# Altium integrated library NSC Interface.IntLib: 504 symbols (part 9 of 16)
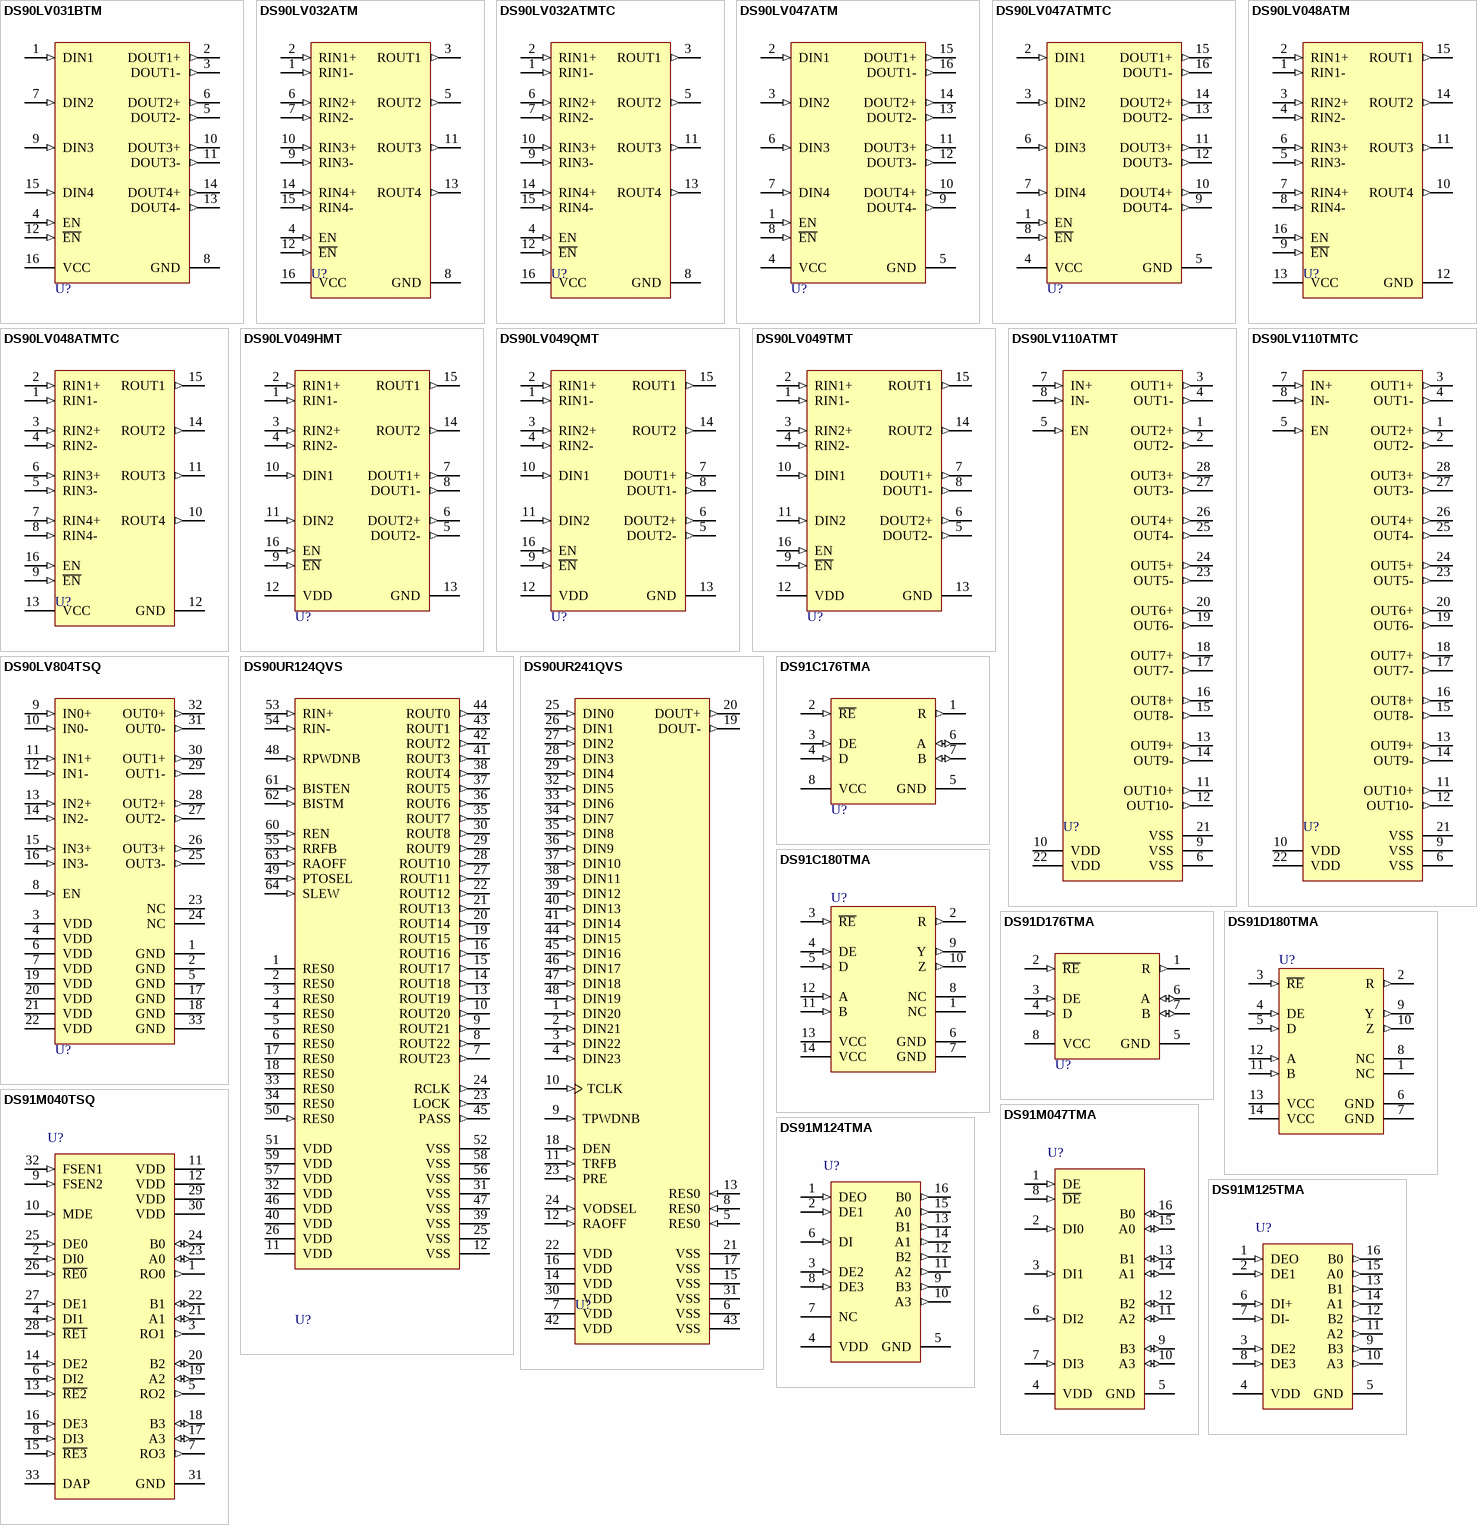
[diagram p49: symbols DS90LV031BTM to DS91M125TMA]

## DS90LV049TMT
designator U?
3V LVDS Dual Line Driver with Dual Line Receiver; PartNumber: DS90LV049TMT; Manufacturer: National Semiconductor; CompType: Interface IC; PackageTopMarking: NSZXYTT*90LV049*TMT; PowerWise: N; Published: 4-Dec-2008; DatasheetVersion: Mar-2003; PackageVersion: revD, Jun-2003; PackageReference: MTC16; Publisher: Altium Limited; PackageDescription: Molded TSSOP, Jedec, 5 x 4.4 x 0.9mm Body, 16 Lead, 0.65mm Pitch; RoHS: O; PinCount: 16; DigiKeyPartNumber: DS90LV049TMT-ND; Code_JEDEC: MO-153-AB; ComponentLink1Description: DS90LV049 Datasheet; ComponentLink1URL: http://www.national.com/ds/DS/DS90LV049.pdf; ComponentLink2Description: DS90LV049 Web Page; ComponentLink2URL: http://www.national.com/pf/DS/DS90LV049.html; ComponentLink3Description: MTC16 Package Page; ComponentLink3URL: http://www.national.com/packaging/folders/mtc16.html
footprint MTC16_N (TSOP, 16-Leads, Body 5x4.4mm, Pitch 0.65mm, IPC Medium Density)
footprint MTC16_L (TSOP, 16-Leads, Body 5x4.4mm, Pitch 0.65mm, IPC High Density)
footprint MTC16_M (TSOP, 16-Leads, Body 5x4.4mm, Pitch 0.65mm, IPC Low Density)
pins: 1 RIN1- (in), 2 RIN1+ (in), 3 RIN2+ (in), 4 RIN2- (in), 5 DOUT2- (out), 6 DOUT2+ (out), 7 DOUT1+ (out), 8 DOUT1- (out), 9 ~{EN} (in), 10 DIN1 (in), 11 DIN2 (in), 12 VDD (power), 13 GND (power), 14 ROUT2 (out), 15 ROUT1 (out), 16 EN (in)

## DS90LV110ATMT
designator U?
1 to 10 LVDS Data/Clock Distributor with Failsafe; PartNumber: DS90LV110ATMT; Manufacturer: National Semiconductor; CompType: Interface IC; PackageTopMarking: NSUZXYTT*DS90LV*110ATMT; PowerWise: N; Published: 4-Dec-2008; DatasheetVersion: Oct-2007; PackageVersion: revD, Jan-2005; PackageReference: MTC28; Publisher: Altium Limited; PackageDescription: Molded TSSOP, Jedec, 9.7 x 4.4 x 0.9mm Body, 28 Lead, 0.65mm Pitch; RoHS: O; PinCount: 28; DigiKeyPartNumber: DS90LV110ATMT-ND; Code_JEDEC: MO-153-AE; ComponentLink1Description: DS90LV110AT Datasheet; ComponentLink1URL: http://www.national.com/ds/DS/DS90LV110AT.pdf; ComponentLink2Description: DS90LV110AT Web Page; ComponentLink2URL: http://www.national.com/pf/DS/DS90LV110AT.html; ComponentLink3Description: MTC28 Package Page; ComponentLink3URL: http://www.national.com/packaging/folders/mtc28.html
footprint MTC28_N (TSOP, 28-Leads, Body 9.7x4.4mm, Pitch 0.65mm, IPC Medium Density)
footprint MTC28_L (TSOP, 28-Leads, Body 9.7x4.4mm, Pitch 0.65mm, IPC High Density)
footprint MTC28_M (TSOP, 28-Leads, Body 9.7x4.4mm, Pitch 0.65mm, IPC Low Density)
pins: 1 OUT2+ (out), 2 OUT2- (out), 3 OUT1+ (out), 4 OUT1- (out), 5 EN (in), 6 VSS (power), 7 IN+ (in), 8 IN- (in), 9 VSS (power), 10 VDD (power), 11 OUT10+ (out), 12 OUT10- (out), 13 OUT9+ (out), 14 OUT9- (out), 15 OUT8- (out), 16 OUT8+ (out), 17 OUT7- (out), 18 OUT7+ (out), 19 OUT6- (out), 20 OUT6+ (out), 21 VSS (power), 22 VDD (power), 23 OUT5- (out), 24 OUT5+ (out), 25 OUT4- (out), 26 OUT4+ (out), 27 OUT3- (out), 28 OUT3+ (out)

## DS90LV110TMTC
designator U?
1 to 10 LVDS Data/Clock Distributor; PartNumber: DS90LV110TMTC; Manufacturer: National Semiconductor; CompType: Interface IC; PackageTopMarking: NSUZXYTT*DS90LV*110TMTC; PowerWise: N; Published: 4-Dec-2008; DatasheetVersion: May-2007; PackageVersion: revD, Jan-2005; PackageReference: MTC28; Publisher: Altium Limited; PackageDescription: Molded TSSOP, Jedec, 9.7 x 4.4 x 0.9mm Body, 28 Lead, 0.65mm Pitch; RoHS: O; PinCount: 28; DigiKeyPartNumber: DS90LV110TMTC-ND; Code_JEDEC: MO-153-AE; ComponentLink1Description: DS90LV110T Datasheet; ComponentLink1URL: http://www.national.com/ds/DS/DS90LV110T.pdf; ComponentLink2Description: DS90LV110T Web Page; ComponentLink2URL: http://www.national.com/pf/DS/DS90LV110T.html; ComponentLink3Description: MTC28 Package Page; ComponentLink3URL: http://www.national.com/packaging/folders/mtc28.html
footprint MTC28_N (TSOP, 28-Leads, Body 9.7x4.4mm, Pitch 0.65mm, IPC Medium Density)
footprint MTC28_L (TSOP, 28-Leads, Body 9.7x4.4mm, Pitch 0.65mm, IPC High Density)
footprint MTC28_M (TSOP, 28-Leads, Body 9.7x4.4mm, Pitch 0.65mm, IPC Low Density)
pins: 1 OUT2+ (out), 2 OUT2- (out), 3 OUT1+ (out), 4 OUT1- (out), 5 EN (in), 6 VSS (power), 7 IN+ (in), 8 IN- (in), 9 VSS (power), 10 VDD (power), 11 OUT10+ (out), 12 OUT10- (out), 13 OUT9+ (out), 14 OUT9- (out), 15 OUT8- (out), 16 OUT8+ (out), 17 OUT7- (out), 18 OUT7+ (out), 19 OUT6- (out), 20 OUT6+ (out), 21 VSS (power), 22 VDD (power), 23 OUT5- (out), 24 OUT5+ (out), 25 OUT4- (out), 26 OUT4+ (out), 27 OUT3- (out), 28 OUT3+ (out)

## DS90LV804TSQ
designator U?
Four-Channel 800 Mbps LVDS Repeater; PartNumber: DS90LV804TSQ; Manufacturer: National Semiconductor; CompType: Interface IC; PackageTopMarking: NS*UZXYTT*804TSQ; PowerWise: N; Published: 4-Dec-2008; DatasheetVersion: May-2007; PackageVersion: revA, Jul-2004; PackageReference: SQA32A; Publisher: Altium Limited; PackageDescription: LLP, Quad, 5 x 5 x 0.8mm, 32 Lead, 0.5mm Pitch, No Pullback, 3.1 x 3.1mm Exposed Pad; RoHS: Y; PinCount: 32; DigiKeyPartNumber: DS90LV804TSQTR-ND; ComponentLink1Description: DS90LV804 Datasheet; ComponentLink1URL: http://www.national.com/ds/DS/DS90LV804.pdf; ComponentLink2Description: DS90LV804 Web Page; ComponentLink2URL: http://www.national.com/pf/DS/DS90LV804.html; ComponentLink3Description: SQA32A Package Page; ComponentLink3URL: http://www.national.com/packaging/folders/sqa32a.html
footprint SQA32A (QFN, 32-Leads, Body 5x5mm, Pitch 0.5mm, NSC Recommended)
pins: 1 GND (power), 2 GND (power), 3 VDD (power), 4 VDD (power), 5 GND (power), 6 VDD (power), 7 VDD (power), 8 EN (in), 9 IN0+ (in), 10 IN0- (in), 11 IN1+ (in), 12 IN1- (in), 13 IN2+ (in), 14 IN2- (in), 15 IN3+ (in), 16 IN3- (in), 17 GND (power), 18 GND (power), 19 VDD (power), 20 VDD (power), 21 VDD (power), 22 VDD (power), 23 NC, 24 NC, 25 OUT3- (out), 26 OUT3+ (out), 27 OUT2- (out), 28 OUT2+ (out), 29 OUT1- (out), 30 OUT1+ (out), 31 OUT0- (out), 32 OUT0+ (out), 33 GND (power)

## DS90UR124QVS
designator U?
5-43MHz DC- Balanced 24-Bit LVDS Deserializer; PartNumber: DS90UR124QVS; Manufacturer: National Semiconductor; CompType: Interface IC; PackageTopMarking: NSUZXYYTT*DS90UR124*QVS; PowerWise: N; Published: 4-Dec-2008; DatasheetVersion: Jan-2008; PackageVersion: revB, Jul-2003; PackageReference: VEC64A; Publisher: Altium Limited; PackageDescription: TQFP, Jedec Metric, 10 x 10 x 1.0mm, 64 Lead, 0.5mm Pitch; RoHS: Y; PinCount: 64; Code_JEDEC: MS-026-ACD; ComponentLink1Description: DS90UR124 Datasheet; ComponentLink1URL: http://www.national.com/ds/DS/DS90UR124.pdf; ComponentLink2Description: DS90UR124 Web Page; ComponentLink2URL: http://www.national.com/pf/DS/DS90UR124.html; ComponentLink3Description: VEC64A Package Page; ComponentLink3URL: http://www.national.com/packaging/folders/vec64a.html
footprint VEC64A_N (Thin QFP, 64-Leads, Body 10x10mm, Pitch 0.5mm, IPC Medium Density)
footprint VEC64A_L (Thin QFP, 64-Leads, Body 10x10mm, Pitch 0.5mm, IPC High Density)
footprint VEC64A_M (Thin QFP, 64-Leads, Body 10x10mm, Pitch 0.5mm, IPC Low Density)
pins: 1 RES0, 2 RES0, 3 RES0, 4 RES0, 5 RES0, 6 RES0, 7 ROUT23 (out), 8 ROUT22 (out), 9 ROUT21 (out), 10 ROUT20 (out), 11 VDD (power), 12 VSS (power), 13 ROUT19 (out), 14 ROUT18 (out), 15 ROUT17 (out), 16 ROUT16 (out), 17 RES0, 18 RES0, 19 ROUT15 (out), 20 ROUT14 (out), 21 ROUT13 (out), 22 ROUT12 (out), 23 LOCK (out), 24 RCLK (out), 25 VSS (power), 26 VDD (power), 27 ROUT11 (out), 28 ROUT10 (out), 29 ROUT9 (out), 30 ROUT8 (out), 31 VSS (power), 32 VDD (power), 33 RES0, 34 RES0, 35 ROUT7 (out), 36 ROUT6 (out), 37 ROUT5 (out), 38 ROUT4 (out), 39 VSS (power), 40 VDD (power), 41 ROUT3 (out), 42 ROUT2 (out), 43 ROUT1 (out), 44 ROUT0 (out), 45 PASS (out), 46 VDD (power), 47 VSS (power), 48 RPWDNB (in), 49 PTOSEL (in), 50 RES0 (in), 51 VDD (power), 52 VSS (power), 53 RIN+ (in), 54 RIN- (in), 55 RRFB (in), 56 VSS (power), 57 VDD (power), 58 VSS (power), 59 VDD (power), 60 REN (in), 61 BISTEN (in), 62 BISTM (in), 63 RAOFF (in), 64 SLEW (in)

## DS90UR241QVS
designator U?
5-43MHz DC- Balanced 24-Bit LVDS Serializer; PartNumber: DS90UR241QVS; Manufacturer: National Semiconductor; CompType: Interface IC; PackageTopMarking: NSUZXYTT*DS90UR24*1QVS; PowerWise: N; Published: 4-Dec-2008; DatasheetVersion: Jan-2008; PackageVersion: revA, Apr-2000; PackageReference: VBC48A; Publisher: Altium Limited; PackageDescription: TQFP, Jedec Metric, 7 x 7 x 1mm, 48 Lead, 0.5mm Pitch; RoHS: Y; PinCount: 48; Code_JEDEC: MS-026-ABC; ComponentLink1Description: DS90UR241 Datasheet; ComponentLink1URL: http://www.national.com/ds/DS/DS90UR241.pdf; ComponentLink2Description: DS90UR241 Web Page; ComponentLink2URL: http://www.national.com/pf/DS/DS90UR241.html; ComponentLink3Description: VBC48A Package Page; ComponentLink3URL: http://www.national.com/packaging/folders/vbc48a.html
footprint VBC48A_N (Thin QFP, 48-Leads, Body 7x7mm, Pitch 0.5mm, IPC Medium Density)
footprint VBC48A_L (Thin QFP, 48-Leads, Body 7x7mm, Pitch 0.5mm, IPC High Density)
footprint VBC48A_M (Thin QFP, 48-Leads, Body 7x7mm, Pitch 0.5mm, IPC Low Density)
pins: 1 DIN20 (in), 2 DIN21 (in), 3 DIN22 (in), 4 DIN23 (in), 5 RES0 (in), 6 VSS (power), 7 VDD (power), 8 RES0 (in), 9 TPWDNB (in), 10 TCLK (in), 11 TRFB (in), 12 RAOFF (in), 13 RES0 (in), 14 VDD (power), 15 VSS (power), 16 VDD (power), 17 VSS (power), 18 DEN (in), 19 DOUT- (out), 20 DOUT+ (out), 21 VSS (power), 22 VDD (power), 23 PRE (in), 24 VODSEL (in), 25 DIN0 (in), 26 DIN1 (in), 27 DIN2 (in), 28 DIN3 (in), 29 DIN4 (in), 30 VDD (power), 31 VSS (power), 32 DIN5 (in), 33 DIN6 (in), 34 DIN7 (in), 35 DIN8 (in), 36 DIN9 (in), 37 DIN10 (in), 38 DIN11 (in), 39 DIN12 (in), 40 DIN13 (in), 41 DIN14 (in), 42 VDD (power), 43 VSS (power), 44 DIN15 (in), 45 DIN16 (in), 46 DIN17 (in), 47 DIN18 (in), 48 DIN19 (in)

## DS91C176TMA
designator U?
100 MHz Single Channel M-LVDS Transceivers; PartNumber: DS91C176TMA; Manufacturer: National Semiconductor; CompType: Interface IC; PackageTopMarking: NSZXTT*DS91C*176MA; PowerWise: N; Published: 4-Dec-2008; DatasheetVersion: Feb-2008; PackageVersion: revL, Sep-2006; PackageReference: M08A; Publisher: Altium Limited; PackageDescription: SOIC Narrow, 4.9 x 3.9 x 1.45mm, 8 Lead, 1.27mm Pitch; RoHS: O; PinCount: 8; DigiKeyPartNumber: DS91C176TMA-ND; Code_JEDEC: MS-012-AA; Code_IPC: SOIC127P600-8; ComponentLink1Description: DS91C176 Datasheet; ComponentLink1URL: http://www.national.com/ds/DS/DS91C176.pdf; ComponentLink2Description: DS91C176 Web Page; ComponentLink2URL: http://www.national.com/pf/DS/DS91C176.html; ComponentLink3Description: M08A Package Page; ComponentLink3URL: http://www.national.com/packaging/folders/m08a.html
footprint M08A_N (SOIC, 8-Leads, Body 4.9x3.9mm, Pitch 1.27mm, IPC Medium Density)
footprint M08A_L (SOIC, 8-Leads, Body 4.9x3.9mm, Pitch 1.27mm, IPC High Density)
footprint M08A_M (SOIC, 8-Leads, Body 4.9x3.9mm, Pitch 1.27mm, IPC Low Density)
pins: 1 R (out), 2 ~{RE} (in), 3 DE (in), 4 D (in), 5 GND (power), 6 A (io), 7 B (io), 8 VCC (power)

## DS91C180TMA
designator U?
100 MHz M-LVDS Line Driver/Receiver Pair; PartNumber: DS91C180TMA; Manufacturer: National Semiconductor; CompType: Interface IC; PackageTopMarking: NSUZXYTT*DS91C180*TMA; PowerWise: N; Published: 4-Dec-2008; DatasheetVersion: Nov-2007; PackageVersion: revJ, Jan-1996; PackageReference: M14A; Publisher: Altium Limited; PackageDescription: Molded Package, S.O., .150in Wide, 14 Lead; RoHS: Y; PinCount: 14; DigiKeyPartNumber: DS91C180TMA-ND; Code_JEDEC: MS-012AB; Code_IPC: SOIC127P600-14; ComponentLink1Description: DS91C180 Datasheet; ComponentLink1URL: http://www.national.com/ds/DS/DS91C180.pdf; ComponentLink2Description: DS91C180 Web Page; ComponentLink2URL: http://www.national.com/pf/DS/DS91C180.html; ComponentLink3Description: M14A Package Page; ComponentLink3URL: http://www.national.com/packaging/folders/m14a.html
footprint M14A_N (SOIC, 14-Leads, Body 8.6x3.9mm, Pitch 1.27mm, IPC Medium Density)
footprint M14A_L (SOIC, 14-Leads, Body 8.6x3.9mm, Pitch 1.27mm, IPC High Density)
footprint M14A_M (SOIC, 14-Leads, Body 8.6x3.9mm, Pitch 1.27mm, IPC Low Density)
pins: 1 NC, 2 R (out), 3 ~{RE} (in), 4 DE (in), 5 D (in), 6 GND (power), 7 GND (power), 8 NC, 9 Y (out), 10 Z (out), 11 B (in), 12 A (in), 13 VCC (power), 14 VCC (power)

## DS91D176TMA
designator U?
100 MHz Single Channel M-LVDS Transceivers; PartNumber: DS91D176TMA; Manufacturer: National Semiconductor; CompType: Interface IC; PackageTopMarking: NSZXTT*DS91D*176MA; PowerWise: N; Published: 4-Dec-2008; DatasheetVersion: Feb-2008; PackageVersion: revL, Sep-2006; PackageReference: M08A; Publisher: Altium Limited; PackageDescription: SOIC Narrow, 4.9 x 3.9 x 1.45mm, 8 Lead, 1.27mm Pitch; RoHS: Y; PinCount: 8; DigiKeyPartNumber: DS91D176TMA-ND; Code_JEDEC: MS-012-AA; Code_IPC: SOIC127P600-8; ComponentLink1Description: DS91D176 Datasheet; ComponentLink1URL: http://www.national.com/ds/DS/DS91D176.pdf; ComponentLink2Description: DS91D176 Web Page; ComponentLink2URL: http://www.national.com/pf/DS/DS91D176.html; ComponentLink3Description: M08A Package Page; ComponentLink3URL: http://www.national.com/packaging/folders/m08a.html
footprint M08A_N (SOIC, 8-Leads, Body 4.9x3.9mm, Pitch 1.27mm, IPC Medium Density)
footprint M08A_L (SOIC, 8-Leads, Body 4.9x3.9mm, Pitch 1.27mm, IPC High Density)
footprint M08A_M (SOIC, 8-Leads, Body 4.9x3.9mm, Pitch 1.27mm, IPC Low Density)
pins: 1 R (out), 2 ~{RE} (in), 3 DE (in), 4 D (in), 5 GND (power), 6 A (io), 7 B (io), 8 VCC (power)

## DS91D180TMA
designator U?
100 MHz M-LVDS Line Driver/Receiver Pair; PartNumber: DS91D180TMA; Manufacturer: National Semiconductor; CompType: Interface IC; PackageTopMarking: NSUZXYTT*DS91D180*TMA; PowerWise: N; Published: 4-Dec-2008; DatasheetVersion: Nov-2007; PackageVersion: revJ, Jan-1996; PackageReference: M14A; Publisher: Altium Limited; PackageDescription: Molded Package, S.O., .150in Wide, 14 Lead; RoHS: Y; PinCount: 14; DigiKeyPartNumber: DS91D180TMA-ND; Code_JEDEC: MS-012AB; Code_IPC: SOIC127P600-14; ComponentLink1Description: DS91D180 Datasheet; ComponentLink1URL: http://www.national.com/ds/DS/DS91D180.pdf; ComponentLink2Description: DS91D180 Web Page; ComponentLink2URL: http://www.national.com/pf/DS/DS91D180.html; ComponentLink3Description: M14A Package Page; ComponentLink3URL: http://www.national.com/packaging/folders/m14a.html
footprint M14A_N (SOIC, 14-Leads, Body 8.6x3.9mm, Pitch 1.27mm, IPC Medium Density)
footprint M14A_L (SOIC, 14-Leads, Body 8.6x3.9mm, Pitch 1.27mm, IPC High Density)
footprint M14A_M (SOIC, 14-Leads, Body 8.6x3.9mm, Pitch 1.27mm, IPC Low Density)
pins: 1 NC, 2 R (out), 3 ~{RE} (in), 4 DE (in), 5 D (in), 6 GND (power), 7 GND (power), 8 NC, 9 Y (out), 10 Z (out), 11 B (in), 12 A (in), 13 VCC (power), 14 VCC (power)

## DS91M040TSQ
designator U?
125 MHz Quad M-LVDS Transceiver; PartNumber: DS91M040TSQ; Manufacturer: National Semiconductor; CompType: Interface IC; PackageTopMarking: NS*UZXYTT*M040TS; PowerWise: N; Published: 4-Dec-2008; DatasheetVersion: Oct-2008; PackageVersion: revA, Jul-2004; PackageReference: SQA32A; Publisher: Altium Limited; RoHS: Y; PinCount: 32; DigiKeyPartNumber: DS91M040TSQCT-ND; ComponentLink1Description: DS91M040 Datasheet; ComponentLink1URL: http://www.national.com/ds/DS/DS91M040.pdf; ComponentLink2Description: DS91M040 Web Page; ComponentLink2URL: http://www.national.com/pf/DS/DS91M040.html; ComponentLink3Description: SQA32A Package Page; ComponentLink3URL: http://www.national.com/packaging/folders/sqa32a.html
footprint SQA32A (QFN, 32-Leads, Body 5x5mm, Pitch 0.5mm, NSC Recommended)
pins: 1 RO0 (out), 2 DI0 (in), 3 RO1 (out), 4 DI1 (in), 5 RO2 (out), 6 DI2 (in), 7 RO3 (out), 8 DI3 (in), 9 FSEN2 (in), 10 MDE (in), 11 VDD (power), 12 VDD (power), 13 ~{RE2} (in), 14 DE2 (in), 15 ~{RE3} (in), 16 DE3 (in), 17 A3 (io), 18 B3 (io), 19 A2 (io), 20 B2 (io), 21 A1 (io), 22 B1 (io), 23 A0 (io), 24 B0 (io), 25 DE0 (in), 26 ~{RE0} (in), 27 DE1 (in), 28 ~{RE1} (in), 29 VDD (power), 30 VDD (power), 31 GND (power), 32 FSEN1 (in), 33 DAP (power)

## DS91M047TMA
designator U?
125 MHz Quad M-LVDS Line Driver; PartNumber: DS91M047TMA; Manufacturer: National Semiconductor; CompType: Interface IC; PackageTopMarking: NSUZXYTT*DS91M047*TMA; PowerWise: N; Published: 4-Dec-2008; DatasheetVersion: Oct-2008; PackageVersion: revJ, Aug-1995; PackageReference: M16A; Publisher: Altium Limited; RoHS: Y; PinCount: 16; Code_JEDEC: MS-012-AC; Code_IPC: SOIC127P600-16; ComponentLink1Description: DS91M047 Datasheet; ComponentLink1URL: http://www.national.com/ds/DS/DS91M047.pdf; ComponentLink2Description: DS91M047 Web Page; ComponentLink2URL: http://www.national.com/pf/DS/DS91M047.html; ComponentLink3Description: M16A Package Page; ComponentLink3URL: http://www.national.com/packaging/folders/m16a.html
footprint M16A_N (SOIC, 16-Leads, Body 9.9x3.9mm, Pitch 1.27mm, IPC Medium Density)
footprint M16A_L (SOIC, 16-Leads, Body 9.9x3.9mm, Pitch 1.27mm, IPC High Density)
footprint M16A_M (SOIC, 16-Leads, Body 9.9x3.9mm, Pitch 1.27mm, IPC Low Density)
pins: 1 DE (in), 2 DI0 (in), 3 DI1 (in), 4 VDD (power), 5 GND (power), 6 DI2 (in), 7 DI3 (in), 8 ~{DE} (in), 9 B3 (io), 10 A3 (io), 11 A2 (io), 12 B2 (io), 13 B1 (io), 14 A1 (io), 15 A0 (io), 16 B0 (io)

## DS91M124TMA
designator U?
125 MHz 1:4 M-LVDS Repeater with LVCMOS Input; PartNumber: DS91M124TMA; Manufacturer: National Semiconductor; CompType: Interface IC; PackageTopMarking: NSUZXYTT*DS91M124*TMA; PowerWise: N; Published: 4-Dec-2008; DatasheetVersion: Oct-2008; PackageVersion: revJ, Aug-1995; PackageReference: M16A; Publisher: Altium Limited; RoHS: Y; PinCount: 16; Code_JEDEC: MS-012-AC; Code_IPC: SOIC127P600-16; ComponentLink1Description: DS91M124 Datasheet; ComponentLink1URL: http://www.national.com/ds/DS/DS91M124.pdf; ComponentLink2Description: DS91M124 Web Page; ComponentLink2URL: http://www.national.com/pf/DS/DS91M124.html; ComponentLink3Description: M16A Package Page; ComponentLink3URL: http://www.national.com/packaging/folders/m16a.html
footprint M16A_N (SOIC, 16-Leads, Body 9.9x3.9mm, Pitch 1.27mm, IPC Medium Density)
footprint M16A_L (SOIC, 16-Leads, Body 9.9x3.9mm, Pitch 1.27mm, IPC High Density)
footprint M16A_M (SOIC, 16-Leads, Body 9.9x3.9mm, Pitch 1.27mm, IPC Low Density)
pins: 1 DEO (in), 2 DE1 (in), 3 DE2 (in), 4 VDD (power), 5 GND (power), 6 DI (in), 7 NC, 8 DE3 (in), 9 B3 (out), 10 A3 (out), 11 A2 (out), 12 B2 (out), 13 B1 (out), 14 A1 (out), 15 A0 (out), 16 B0 (out)

## DS91M125TMA
designator U?
125 MHz 1:4 M-LVDS Repeater with LVDS Input; PartNumber: DS91M125TMA; Manufacturer: National Semiconductor; CompType: Interface IC; PackageTopMarking: NSUZXYTT*DS91M125*TMA; PowerWise: N; Published: 4-Dec-2008; DatasheetVersion: Oct-2008; PackageVersion: revJ, Aug-1995; PackageReference: M16A; Publisher: Altium Limited; RoHS: Y; PinCount: 16; Code_JEDEC: MS-012-AC; Code_IPC: SOIC127P600-16; ComponentLink1Description: DS91M125 Datasheet; ComponentLink1URL: http://www.national.com/ds/DS/DS91M125.pdf; ComponentLink2Description: DS91M125 Web Page; ComponentLink2URL: http://www.national.com/pf/DS/DS91M125.html; ComponentLink3Description: M16A Package Page; ComponentLink3URL: http://www.national.com/packaging/folders/m16a.html
footprint M16A_N (SOIC, 16-Leads, Body 9.9x3.9mm, Pitch 1.27mm, IPC Medium Density)
footprint M16A_L (SOIC, 16-Leads, Body 9.9x3.9mm, Pitch 1.27mm, IPC High Density)
footprint M16A_M (SOIC, 16-Leads, Body 9.9x3.9mm, Pitch 1.27mm, IPC Low Density)
pins: 1 DEO (in), 2 DE1 (in), 3 DE2 (in), 4 VDD (power), 5 GND (power), 6 DI+ (in), 7 DI- (in), 8 DE3 (in), 9 B3 (out), 10 A3 (out), 11 A2 (out), 12 B2 (out), 13 B1 (out), 14 A1 (out), 15 A0 (out), 16 B0 (out)

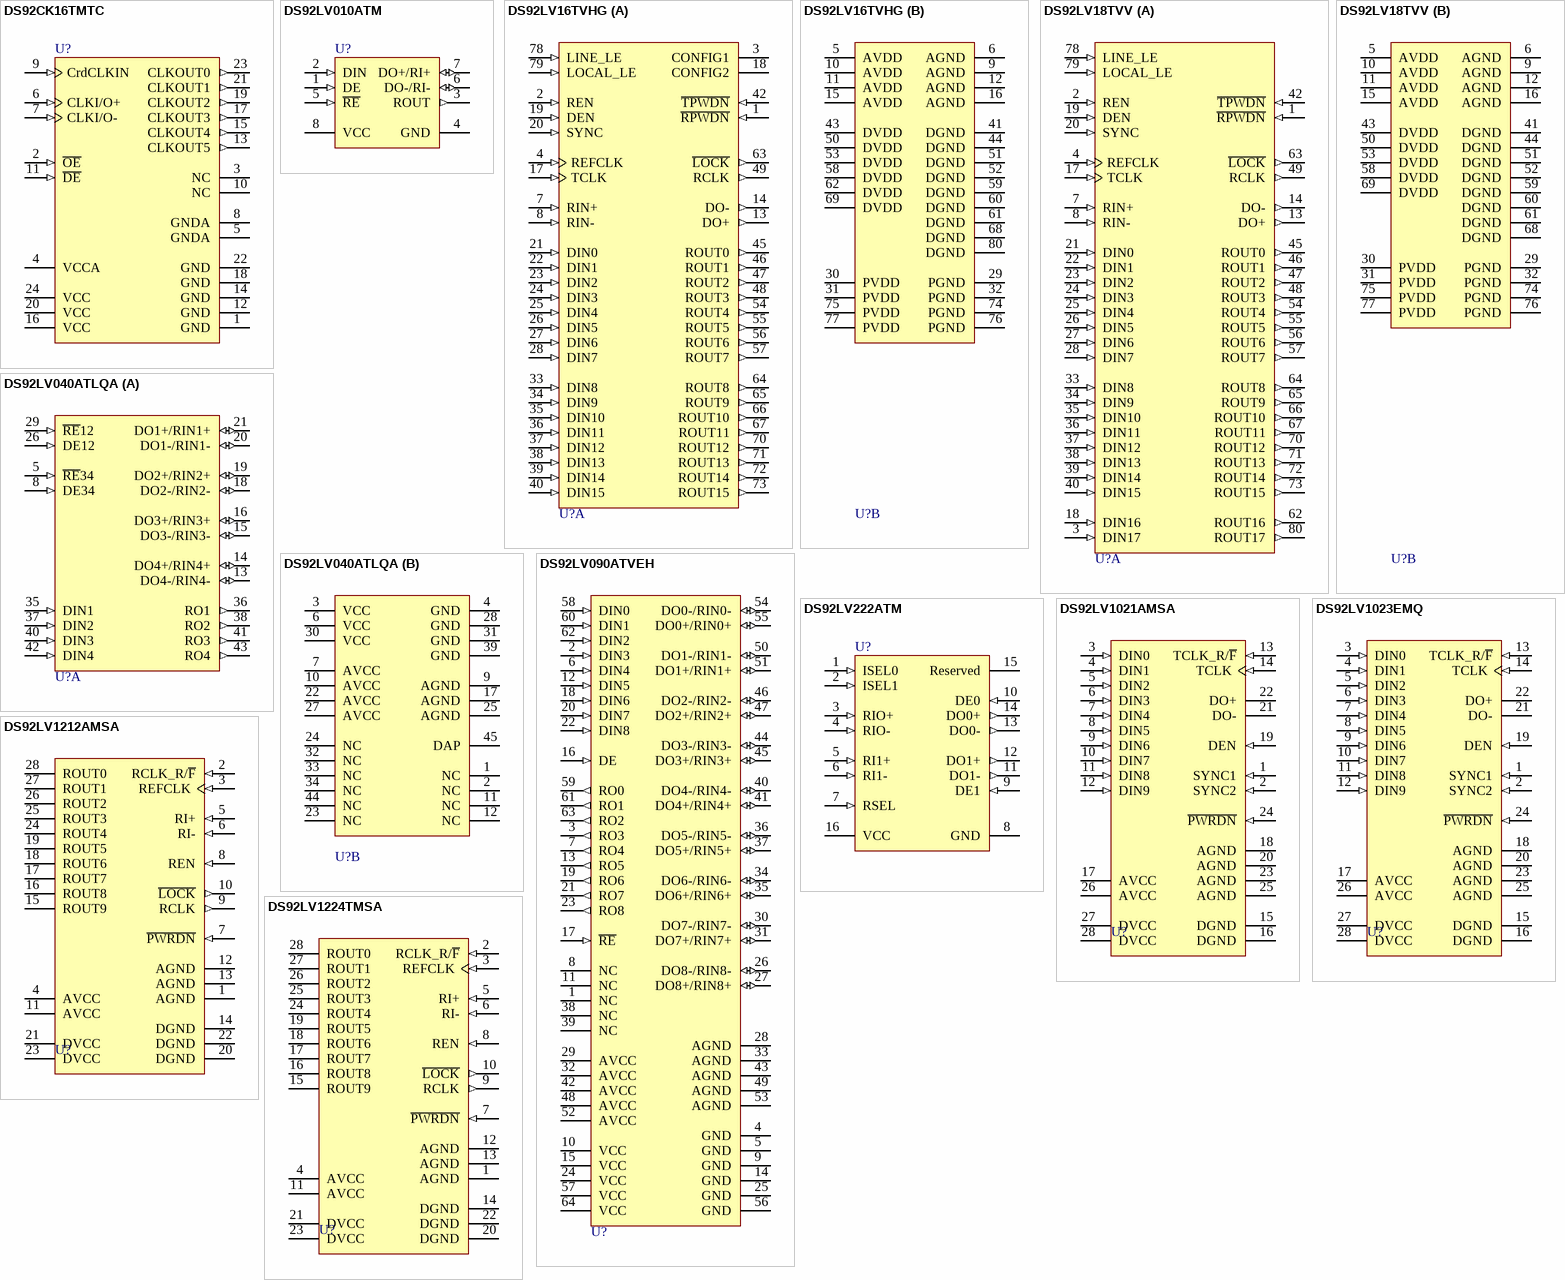
[diagram p24: symbols DS92CK16TMTC to DS92LV1224TMSA]

## DS92CK16TMTC
designator U?
3V BLVDS 1 to 6 Clock Buffer/Bus Transceiver; PartNumber: DS92CK16TMTC; Manufacturer: National Semiconductor; CompType: Interface IC; PackageTopMarking: NSUZXYTT*DS92CK16T*MTC; PowerWise: N; Published: 4-Dec-2008; DatasheetVersion: Apr-2006; PackageVersion: revE, Mar-2003; PackageReference: MTC24; Publisher: Altium Limited; PackageDescription: Molded TSSOP, Jedec, 7.8 x 4.4 x 0.9mm Body, 24 Lead, 0.65mm Pitch; RoHS: O; PinCount: 24; DigiKeyPartNumber: DS92CK16TMTC-ND; Code_JEDEC: MO-153-AD; ComponentLink1Description: DS92CK16 Datasheet; ComponentLink1URL: http://www.national.com/ds/DS/DS92CK16.pdf; ComponentLink2Description: DS92CK16 Web Page; ComponentLink2URL: http://www.national.com/pf/DS/DS92CK16.html; ComponentLink3Description: MTC24 Package Page; ComponentLink3URL: http://www.national.com/packaging/folders/mtc24.html
footprint MTC24_N (TSOP, 24-Leads, Body 7.8x4.4mm, Pitch 0.65mm, IPC Medium Density)
footprint MTC24_L (TSOP, 24-Leads, Body 7.8x4.4mm, Pitch 0.65mm, IPC High Density)
footprint MTC24_M (TSOP, 24-Leads, Body 7.8x4.4mm, Pitch 0.65mm, IPC Low Density)
pins: 1 GND (power), 2 ~{OE} (in), 3 NC, 4 VCCA (power), 5 GNDA (power), 6 CLKI/O+ (in), 7 CLKI/O- (in), 8 GNDA (power), 9 CrdCLKIN (in), 10 NC, 11 ~{DE} (in), 12 GND (power), 13 CLKOUT5 (out), 14 GND (power), 15 CLKOUT4 (out), 16 VCC (power), 17 CLKOUT3 (out), 18 GND (power), 19 CLKOUT2 (out), 20 VCC (power), 21 CLKOUT1 (out), 22 GND (power), 23 CLKOUT0 (out), 24 VCC (power)

## DS92LV010ATM
designator U?
Bus LVDS 3.3/5.0V Single Transceiver; PartNumber: DS92LV010ATM; Manufacturer: National Semiconductor; CompType: Interface IC; PackageTopMarking: NSZXTT*LV010*ATM; PowerWise: N; Published: 4-Dec-2008; DatasheetVersion: Nov-2007; PackageVersion: revL, Sep-2006; PackageReference: M08A; Publisher: Altium Limited; PackageDescription: SOIC Narrow, 4.9 x 3.9 x 1.45mm, 8 Lead, 1.27mm Pitch; RoHS: O; PinCount: 8; DigiKeyPartNumber: DS92LV010ATM-ND; Code_JEDEC: MS-012-AA; Code_IPC: SOIC127P600-8; ComponentLink1Description: DS92LV010A Datasheet; ComponentLink1URL: http://www.national.com/ds/DS/DS92LV010A.pdf; ComponentLink2Description: DS92LV010A Web Page; ComponentLink2URL: http://www.national.com/pf/DS/DS92LV010A.html; ComponentLink3Description: M08A Package Page; ComponentLink3URL: http://www.national.com/packaging/folders/m08a.html
footprint M08A_N (SOIC, 8-Leads, Body 4.9x3.9mm, Pitch 1.27mm, IPC Medium Density)
footprint M08A_L (SOIC, 8-Leads, Body 4.9x3.9mm, Pitch 1.27mm, IPC High Density)
footprint M08A_M (SOIC, 8-Leads, Body 4.9x3.9mm, Pitch 1.27mm, IPC Low Density)
pins: 1 DE (in), 2 DIN (in), 3 ROUT (out), 4 GND (power), 5 ~{RE} (in), 6 DO-/RI- (io), 7 DO+/RI+ (io), 8 VCC (power)

## DS92LV16TVHG
designator U?
16-Bit Bus LVDS Serializer/Deserializer - 25 - 80 MHz; PartNumber: DS92LV16TVHG; Manufacturer: National Semiconductor; CompType: Interface IC; PackageTopMarking: NSUZXYTT*DS92LV16TVHG*BBBBB; PowerWise: N; Published: 4-Dec-2008; DatasheetVersion: Feb-2002; PackageVersion: revE, Feb-2005; PackageReference: VHG80A; Publisher: Altium Limited; PackageDescription: LQFP, Jedec, Metric, 12 x 12 x 1.4mm, 80 Lead, 0.5mm Pitch; RoHS: O; PinCount: 80; DigiKeyPartNumber: DS92LV16TVHG-ND; Code_JEDEC: MS-026-BDD; ComponentLink1Description: DS92LV16 Datasheet; ComponentLink1URL: http://www.national.com/ds/DS/DS92LV16.pdf; ComponentLink2Description: DS92LV16 Web Page; ComponentLink2URL: http://www.national.com/pf/DS/DS92LV16.html; ComponentLink3Description: VHG80A Package Page; ComponentLink3URL: http://www.national.com/packaging/folders/vhg80a.html
footprint VHG80A_N (Thin QFP, 80-Leads, Body 12x12mm, Pitch 0.5mm, IPC Medium Density)
footprint VHG80A_L (Thin QFP, 80-Leads, Body 12x12mm, Pitch 0.5mm, IPC High Density)
footprint VHG80A_M (Thin QFP, 80-Leads, Body 12x12mm, Pitch 0.5mm, IPC Low Density)
part A pins: 1 ~{RPWDN} (in), 2 REN (in), 3 CONFIG1, 4 REFCLK (in), 7 RIN+ (in), 8 RIN- (in), 13 DO+ (out), 14 DO- (out), 17 TCLK (in), 18 CONFIG2, 19 DEN (in), 20 SYNC (in), 21 DIN0 (in), 22 DIN1 (in), 23 DIN2 (in), 24 DIN3 (in), 25 DIN4 (in), 26 DIN5 (in), 27 DIN6 (in), 28 DIN7 (in), 33 DIN8 (in), 34 DIN9 (in), 35 DIN10 (in), 36 DIN11 (in), 37 DIN12 (in), 38 DIN13 (in), 39 DIN14 (in), 40 DIN15 (in), 42 ~{TPWDN} (in), 45 ROUT0 (out), 46 ROUT1 (out), 47 ROUT2 (out), 48 ROUT3 (out), 49 RCLK (out), 54 ROUT4 (out), 55 ROUT5 (out), 56 ROUT6 (out), 57 ROUT7 (out), 63 ~{LOCK} (out), 64 ROUT8 (out), 65 ROUT9 (out), 66 ROUT10 (out), 67 ROUT11 (out), 70 ROUT12 (out), 71 ROUT13 (out), 72 ROUT14 (out), 73 ROUT15 (out), 78 LINE_LE (in), 79 LOCAL_LE (in)
part B pins: 5 AVDD (power), 6 AGND (power), 9 AGND (power), 10 AVDD (power), 11 AVDD (power), 12 AGND (power), 15 AVDD (power), 16 AGND (power), 29 PGND (power), 30 PVDD (power), 31 PVDD (power), 32 PGND (power), 41 DGND (power), 43 DVDD (power), 44 DGND (power), 50 DVDD (power), 51 DGND (power), 52 DGND (power), 53 DVDD (power), 58 DVDD (power), 59 DGND (power), 60 DGND (power), 61 DGND (power), 62 DVDD (power), 68 DGND (power), 69 DVDD (power), 74 PGND (power), 75 PVDD (power), 76 PGND (power), 77 PVDD (power), 80 DGND (power)

## DS92LV18TVV
designator U?
18-Bit Bus LVDS Serializer/Deserializer - 15 - 66 MHz; PartNumber: DS92LV18TVV; Manufacturer: National Semiconductor; CompType: Interface IC; PackageTopMarking: NSUZXYTT*DS92LV18TVV*BBBBB; PowerWise: N; Published: 4-Dec-2008; DatasheetVersion: Jun-2006; PackageVersion: revE, Feb-2005; PackageReference: VHG80A; Publisher: Altium Limited; PackageDescription: LQFP, Jedec, Metric, 12 x 12 x 1.4mm, 80 Lead, 0.5mm Pitch; RoHS: O; PinCount: 80; DigiKeyPartNumber: DS92LV18TVV-ND; Code_JEDEC: MS-026-BDD; ComponentLink1Description: DS92LV18 Datasheet; ComponentLink1URL: http://www.national.com/ds/DS/DS92LV18.pdf; ComponentLink2Description: DS92LV18 Web Page; ComponentLink2URL: http://www.national.com/pf/DS/DS92LV18.html; ComponentLink3Description: VHG80A Package Page; ComponentLink3URL: http://www.national.com/packaging/folders/vhg80a.html
footprint VHG80A_N (Thin QFP, 80-Leads, Body 12x12mm, Pitch 0.5mm, IPC Medium Density)
footprint VHG80A_L (Thin QFP, 80-Leads, Body 12x12mm, Pitch 0.5mm, IPC High Density)
footprint VHG80A_M (Thin QFP, 80-Leads, Body 12x12mm, Pitch 0.5mm, IPC Low Density)
part A pins: 1 ~{RPWDN} (in), 2 REN (in), 3 DIN17 (in), 4 REFCLK (in), 7 RIN+ (in), 8 RIN- (in), 13 DO+ (out), 14 DO- (out), 17 TCLK (in), 18 DIN16 (in), 19 DEN (in), 20 SYNC (in), 21 DIN0 (in), 22 DIN1 (in), 23 DIN2 (in), 24 DIN3 (in), 25 DIN4 (in), 26 DIN5 (in), 27 DIN6 (in), 28 DIN7 (in), 33 DIN8 (in), 34 DIN9 (in), 35 DIN10 (in), 36 DIN11 (in), 37 DIN12 (in), 38 DIN13 (in), 39 DIN14 (in), 40 DIN15 (in), 42 ~{TPWDN} (in), 45 ROUT0 (out), 46 ROUT1 (out), 47 ROUT2 (out), 48 ROUT3 (out), 49 RCLK (out), 54 ROUT4 (out), 55 ROUT5 (out), 56 ROUT6 (out), 57 ROUT7 (out), 62 ROUT16 (out), 63 ~{LOCK} (out), 64 ROUT8 (out), 65 ROUT9 (out), 66 ROUT10 (out), 67 ROUT11 (out), 70 ROUT12 (out), 71 ROUT13 (out), 72 ROUT14 (out), 73 ROUT15 (out), 78 LINE_LE (in), 79 LOCAL_LE (in), 80 ROUT17 (out)
part B pins: 5 AVDD (power), 6 AGND (power), 9 AGND (power), 10 AVDD (power), 11 AVDD (power), 12 AGND (power), 15 AVDD (power), 16 AGND (power), 29 PGND (power), 30 PVDD (power), 31 PVDD (power), 32 PGND (power), 41 DGND (power), 43 DVDD (power), 44 DGND (power), 50 DVDD (power), 51 DGND (power), 52 DGND (power), 53 DVDD (power), 58 DVDD (power), 59 DGND (power), 60 DGND (power), 61 DGND (power), 68 DGND (power), 69 DVDD (power), 74 PGND (power), 75 PVDD (power), 76 PGND (power), 77 PVDD (power)

## DS92LV040ATLQA
designator U?
4 Channel Bus LVDS Transceiver; PartNumber: DS92LV040ATLQA; Manufacturer: National Semiconductor; CompType: Interface IC; PackageTopMarking: NS*UZXYTT*LV040A; PowerWise: N; Published: 4-Dec-2008; DatasheetVersion: Aug-2002; PackageVersion: revB, Oct-2001; PackageReference: LQA44A; Publisher: Altium Limited; PackageDescription: LLP, Plastic, Quad, 7 x 7 x 0.75mm Body, 44 Lead, 0.5mm Pitch; RoHS: O; PinCount: 44; DigiKeyPartNumber: DS92LV040ATLQATR-ND; ComponentLink1Description: DS92LV040A Datasheet; ComponentLink1URL: http://www.national.com/ds/DS/DS92LV040A.pdf; ComponentLink2Description: DS92LV040A Web Page; ComponentLink2URL: http://www.national.com/pf/DS/DS92LV040A.html; ComponentLink3Description: LQA44A Package Page; ComponentLink3URL: http://www.national.com/packaging/folders/lqa44a.html
footprint LQA44A (PQFN, 44-Leads, Body 7x7mm, Pitch 0.5mm, NSC Recommended)
part A pins: 5 ~{RE}34 (in), 8 DE34 (in), 13 DO4-/RIN4- (io), 14 DO4+/RIN4+ (io), 15 DO3-/RIN3- (io), 16 DO3+/RIN3+ (io), 18 DO2-/RIN2- (io), 19 DO2+/RIN2+ (io), 20 DO1-/RIN1- (io), 21 DO1+/RIN1+ (io), 26 DE12 (in), 29 ~{RE}12 (in), 35 DIN1 (in), 36 RO1 (out), 37 DIN2 (in), 38 RO2 (out), 40 DIN3 (in), 41 RO3 (out), 42 DIN4 (in), 43 RO4 (out)
part B pins: 1 NC, 2 NC, 3 VCC (power), 4 GND (power), 6 VCC (power), 7 AVCC (power), 9 AGND (power), 10 AVCC (power), 11 NC, 12 NC, 17 AGND (power), 22 AVCC (power), 23 NC, 24 NC, 25 AGND (power), 27 AVCC (power), 28 GND (power), 30 VCC (power), 31 GND (power), 32 NC, 33 NC, 34 NC, 39 GND (power), 44 NC, 45 DAP (power)

## DS92LV090ATVEH
designator U?
9 Channel Bus LVDS Transceiver; PartNumber: DS92LV090ATVEH; Manufacturer: National Semiconductor; CompType: Interface IC; PackageTopMarking: NSUZXYYTT*DS92LV090A*TVEH; PowerWise: N; Published: 4-Dec-2008; DatasheetVersion: Dec-2007; PackageVersion: revC, Dec-1999; PackageReference: VEH64A; Publisher: Altium Limited; PackageDescription: LQFP, Jedec, Metric, 10 x 10 x 1.4mm, 64 Lead; RoHS: O; PinCount: 64; DigiKeyPartNumber: DS92LV090ATVEH-ND; Code_JEDEC: MS-026-BCD; ComponentLink1Description: DS92LV090A Datasheet; ComponentLink1URL: http://www.national.com/ds/DS/DS92LV090A.pdf; ComponentLink2Description: DS92LV090A Web Page; ComponentLink2URL: http://www.national.com/pf/DS/DS92LV090A.html; ComponentLink3Description: VEH64A Package Page; ComponentLink3URL: http://www.national.com/packaging/folders/veh64a.html
footprint VEH64A_N (Thin QFP, 64-Leads, Body 10x10mm, Pitch 0.5mm, IPC Medium Density)
footprint VEH64A_L (Thin QFP, 64-Leads, Body 10x10mm, Pitch 0.5mm, IPC High Density)
footprint VEH64A_M (Thin QFP, 64-Leads, Body 10x10mm, Pitch 0.5mm, IPC Low Density)
pins: 1 NC, 2 DIN3 (in), 3 RO3 (out), 4 GND (power), 5 GND (power), 6 DIN4 (in), 7 RO4 (out), 8 NC, 9 GND (power), 10 VCC (power), 11 NC, 12 DIN5 (in), 13 RO5 (out), 14 GND (power), 15 VCC (power), 16 DE (in), 17 ~{RE} (in), 18 DIN6 (in), 19 RO6 (out), 20 DIN7 (in), 21 RO7 (out), 22 DIN8 (in), 23 RO8 (out), 24 VCC (power), 25 GND (power), 26 DO8-/RIN8- (io), 27 DO8+/RIN8+ (io), 28 AGND (power), 29 AVCC (power), 30 DO7-/RIN7- (io), 31 DO7+/RIN7+ (io), 32 AVCC (power), 33 AGND (power), 34 DO6-/RIN6- (io), 35 DO6+/RIN6+ (io), 36 DO5-/RIN5- (io), 37 DO5+/RIN5+ (io), 38 NC, 39 NC, 40 DO4-/RIN4- (io), 41 DO4+/RIN4+ (io), 42 AVCC (power), 43 AGND (power), 44 DO3-/RIN3- (io), 45 DO3+/RIN3+ (io), 46 DO2-/RIN2- (io), 47 DO2+/RIN2+ (io), 48 AVCC (power), 49 AGND (power), 50 DO1-/RIN1- (io), 51 DO1+/RIN1+ (io), 52 AVCC (power), 53 AGND (power), 54 DO0-/RIN0- (io), 55 DO0+/RIN0+ (io), 56 GND (power), 57 VCC (power), 58 DIN0 (in), 59 RO0 (out), 60 DIN1 (in), 61 RO1 (out), 62 DIN2 (in), 63 RO2 (out), 64 VCC (power)

## DS92LV222ATM
designator U?
Two Channel Bus LVDS MUXed Repeater; PartNumber: DS92LV222ATM; Manufacturer: National Semiconductor; CompType: Interface IC; PackageTopMarking: NSUZXYTT*DS92LV222A*TM; Published: 4-Dec-2008; DatasheetVersion: May-1998; PackageVersion: revJ, Aug-1995; PackageReference: M16A; Publisher: Altium Limited; PackageDescription: Molded Package, S.O., .150in Wide, 16 Lead; RoHS: Y; PinCount: 16; DigiKeyPartNumber: DS92LV222ATM-ND; Code_JEDEC: MS-012-AC; Code_IPC: SOIC127P600-16; ComponentLink1Description: DS92LV222A Datasheet; ComponentLink1URL: http://www.national.com/ds/DS/DS92LV222A.pdf; ComponentLink2Description: DS92LV222A Web Page; ComponentLink2URL: http://www.national.com/pf/DS/DS92LV222A.html; ComponentLink3Description: M16A Package Page; ComponentLink3URL: http://www.national.com/packaging/folders/m16a.html
footprint M16A_N (SOIC, 16-Leads, Body 9.9x3.9mm, Pitch 1.27mm, IPC Medium Density)
footprint M16A_L (SOIC, 16-Leads, Body 9.9x3.9mm, Pitch 1.27mm, IPC High Density)
footprint M16A_M (SOIC, 16-Leads, Body 9.9x3.9mm, Pitch 1.27mm, IPC Low Density)
pins: 1 ISEL0 (in), 2 ISEL1 (in), 3 RIO+ (in), 4 RIO- (in), 5 RI1+ (in), 6 RI1- (in), 7 RSEL (in), 8 GND (power), 9 DE1 (in), 10 DE0 (in), 11 DO1- (out), 12 DO1+ (out), 13 DO0- (out), 14 DO0+ (out), 15 Reserved, 16 VCC (power)

## DS92LV1021AMSA
designator U?
16 MHz - 40 MHz 10-Bit Serializer; PartNumber: DS92LV1021AMSA; Manufacturer: National Semiconductor; CompType: Interface IC; PackageTopMarking: NSUZXYTT*DS92LV1021A*MSA BBBBB; PowerWise: N; Published: 4-Dec-2008; DatasheetVersion: Jan-2003; PackageVersion: revB, Jan-2000; PackageReference: MSA28; Publisher: Altium Limited; PackageDescription: Molded SSOP, 5.3mm Body Width, 0.65mm Pitch, EIAJ, Type II, 28 Lead; RoHS: O; PinCount: 28; DigiKeyPartNumber: DS92LV1021AMSA-ND; Code_IPC: SOP65P780-28; ComponentLink1Description: DS92LV1021A Datasheet; ComponentLink1URL: http://www.national.com/ds/DS/DS92LV1021A.pdf; ComponentLink2Description: DS92LV1021A Web Page; ComponentLink2URL: http://www.national.com/pf/DS/DS92LV1021A.html; ComponentLink3Description: MSA28 Package Page; ComponentLink3URL: http://www.national.com/packaging/folders/msa28.html
footprint MSA28_N (SOP, 28-Leads, Body 10.2x5.3mm, Pitch 0.65mm, IPC Medium Density)
footprint MSA28_L (SOP, 28-Leads, Body 10.2x5.3mm, Pitch 0.65mm, IPC High Density)
footprint MSA28_M (SOP, 28-Leads, Body 10.2x5.3mm, Pitch 0.65mm, IPC Low Density)
pins: 1 SYNC1 (in), 2 SYNC2 (in), 3 DIN0 (in), 4 DIN1 (in), 5 DIN2 (in), 6 DIN3 (in), 7 DIN4 (in), 8 DIN5 (in), 9 DIN6 (in), 10 DIN7 (in), 11 DIN8 (in), 12 DIN9 (in), 13 TCLK_R/~{F} (in), 14 TCLK (in), 15 DGND (power), 16 DGND (power), 17 AVCC (power), 18 AGND (power), 19 DEN (in), 20 AGND (power), 21 DO- (hiz), 22 DO+ (hiz), 23 AGND (power), 24 ~{PWRDN} (in), 25 AGND (power), 26 AVCC (power), 27 DVCC (power), 28 DVCC (power)

## DS92LV1023EMQ
designator U?
30-66 MHz 10-Bit Serializer; PartNumber: DS92LV1023EMQ; Manufacturer: National Semiconductor; CompType: Interface IC; PackageTopMarking: NSUZXYTT*DS92LV1023*EMQ; PowerWise: N; Published: 4-Dec-2008; DatasheetVersion: Apr-2005; PackageVersion: revB, Jan-2000; PackageReference: MSA28; Publisher: Altium Limited; PackageDescription: Molded SSOP, 5.3mm Body Width, 0.65mm Pitch, EIAJ, Type II, 28 Lead; RoHS: Y; PinCount: 28; DigiKeyPartNumber: DS92LV1023EMQ-ND; Code_IPC: SOP65P780-28; ComponentLink1Description: DS92LV1023E Datasheet; ComponentLink1URL: http://www.national.com/ds/DS/DS92LV1023E.pdf; ComponentLink2Description: DS92LV1023E Web Page; ComponentLink2URL: http://www.national.com/pf/DS/DS92LV1023E.html; ComponentLink3Description: MSA28 Package Page; ComponentLink3URL: http://www.national.com/packaging/folders/msa28.html
footprint MSA28_N (SOP, 28-Leads, Body 10.2x5.3mm, Pitch 0.65mm, IPC Medium Density)
footprint MSA28_L (SOP, 28-Leads, Body 10.2x5.3mm, Pitch 0.65mm, IPC High Density)
footprint MSA28_M (SOP, 28-Leads, Body 10.2x5.3mm, Pitch 0.65mm, IPC Low Density)
pins: 1 SYNC1 (in), 2 SYNC2 (in), 3 DIN0 (in), 4 DIN1 (in), 5 DIN2 (in), 6 DIN3 (in), 7 DIN4 (in), 8 DIN5 (in), 9 DIN6 (in), 10 DIN7 (in), 11 DIN8 (in), 12 DIN9 (in), 13 TCLK_R/~{F} (in), 14 TCLK (in), 15 DGND (power), 16 DGND (power), 17 AVCC (power), 18 AGND (power), 19 DEN (in), 20 AGND (power), 21 DO- (hiz), 22 DO+ (hiz), 23 AGND (power), 24 ~{PWRDN} (in), 25 AGND (power), 26 AVCC (power), 27 DVCC (power), 28 DVCC (power)

## DS92LV1212AMSA
designator U?
16 MHz - 40 MHz 10-Bit Bus LVDS Random Lock Deserializer with Embedded Clock Recovery; PartNumber: DS92LV1212AMSA; Manufacturer: National Semiconductor; CompType: Interface IC; PackageTopMarking: NSUZXYTT*DS92LV1212A*MSA; PowerWise: N; Published: 4-Dec-2008; DatasheetVersion: Nov-2000; PackageVersion: revB, Jan-2000; PackageReference: MSA28; Publisher: Altium Limited; PackageDescription: Molded SSOP, 5.3mm Body Width, 0.65mm Pitch, EIAJ, Type II, 28 Lead; RoHS: O; PinCount: 28; DigiKeyPartNumber: DS92LV1212AMSA-ND; Code_IPC: SOP65P780-28; ComponentLink1Description: DS92LV1212A Datasheet; ComponentLink1URL: http://www.national.com/ds/DS/DS92LV1212A.pdf; ComponentLink2Description: DS92LV1212A Web Page; ComponentLink2URL: http://www.national.com/pf/DS/DS92LV1212A.html; ComponentLink3Description: MSA28 Package Page; ComponentLink3URL: http://www.national.com/packaging/folders/msa28.html
footprint MSA28_N (SOP, 28-Leads, Body 10.2x5.3mm, Pitch 0.65mm, IPC Medium Density)
footprint MSA28_L (SOP, 28-Leads, Body 10.2x5.3mm, Pitch 0.65mm, IPC High Density)
footprint MSA28_M (SOP, 28-Leads, Body 10.2x5.3mm, Pitch 0.65mm, IPC Low Density)
pins: 1 AGND (power), 2 RCLK_R/~{F} (in), 3 REFCLK (in), 4 AVCC (power), 5 RI+ (in), 6 RI- (in), 7 ~{PWRDN} (in), 8 REN (in), 9 RCLK (out), 10 ~{LOCK} (out), 11 AVCC (power), 12 AGND (power), 13 AGND (power), 14 DGND (power), 15 ROUT9 (hiz), 16 ROUT8 (hiz), 17 ROUT7 (hiz), 18 ROUT6 (hiz), 19 ROUT5 (hiz), 20 DGND (power), 21 DVCC (power), 22 DGND (power), 23 DVCC (power), 24 ROUT4 (hiz), 25 ROUT3 (hiz), 26 ROUT2 (hiz), 27 ROUT1 (hiz), 28 ROUT0 (hiz)

## DS92LV1224TMSA
designator U?
30-66 MHz 10-Bit Deserializer; PartNumber: DS92LV1224TMSA; Manufacturer: National Semiconductor; CompType: Interface IC; PackageTopMarking: NSUZXYTT*DS92LV1224T*MSA; PowerWise: N; Published: 4-Dec-2008; DatasheetVersion: Apr-2005; PackageVersion: revB, Jan-2000; PackageReference: MSA28; Publisher: Altium Limited; PackageDescription: Molded SSOP, 5.3mm Body Width, 0.65mm Pitch, EIAJ, Type II, 28 Lead; RoHS: Y; PinCount: 28; DigiKeyPartNumber: DS92LV1224TMSA-ND; Code_IPC: SOP65P780-28; ComponentLink1Description: DS92LV1224 Datasheet; ComponentLink1URL: http://www.national.com/ds/DS/DS92LV1224.pdf; ComponentLink2Description: DS92LV1224 Web Page; ComponentLink2URL: http://www.national.com/pf/DS/DS92LV1224.html; ComponentLink3Description: MSA28 Package Page; ComponentLink3URL: http://www.national.com/packaging/folders/msa28.html
footprint MSA28_N (SOP, 28-Leads, Body 10.2x5.3mm, Pitch 0.65mm, IPC Medium Density)
footprint MSA28_L (SOP, 28-Leads, Body 10.2x5.3mm, Pitch 0.65mm, IPC High Density)
footprint MSA28_M (SOP, 28-Leads, Body 10.2x5.3mm, Pitch 0.65mm, IPC Low Density)
pins: 1 AGND (power), 2 RCLK_R/~{F} (in), 3 REFCLK (in), 4 AVCC (power), 5 RI+ (in), 6 RI- (in), 7 ~{PWRDN} (in), 8 REN (in), 9 RCLK (out), 10 ~{LOCK} (out), 11 AVCC (power), 12 AGND (power), 13 AGND (power), 14 DGND (power), 15 ROUT9 (hiz), 16 ROUT8 (hiz), 17 ROUT7 (hiz), 18 ROUT6 (hiz), 19 ROUT5 (hiz), 20 DGND (power), 21 DVCC (power), 22 DGND (power), 23 DVCC (power), 24 ROUT4 (hiz), 25 ROUT3 (hiz), 26 ROUT2 (hiz), 27 ROUT1 (hiz), 28 ROUT0 (hiz)

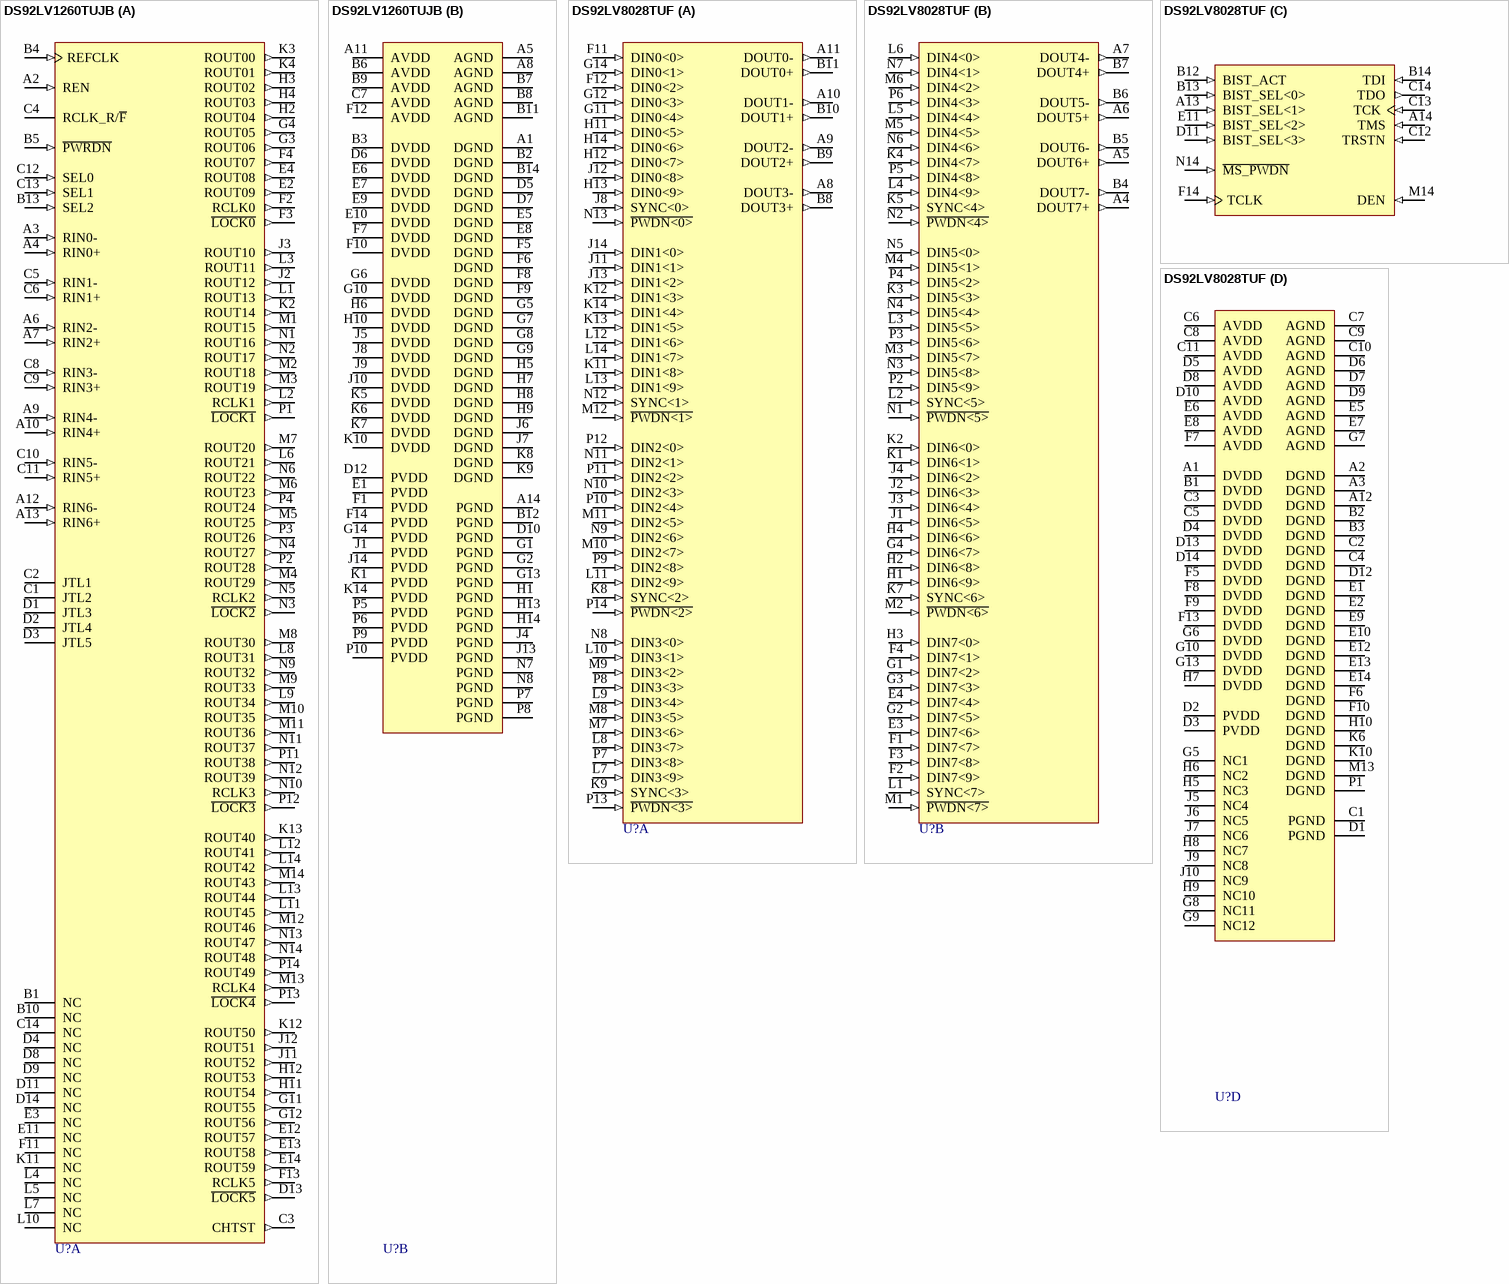
[diagram p25: symbols DS92LV1260TUJB to DS92LV8028TUF]

## DS92LV1260TUJB
designator U?
six 1 to 10 deserializers; PartNumber: DS92LV1260TUJB; Manufacturer: National Semiconductor; CompType: Interface IC; PackageTopMarking: NSUZXYYTT*DS92LV1260T*UJB*BBBBB; PowerWise: N; Published: 4-Dec-2008; DatasheetVersion: Aug-2003; PackageVersion: revC, Jul-2005; PackageReference: UJB196A; Publisher: Altium Limited; PackageDescription: LBGA, 15 x 15 x 1.37mm, 196 Ball, 1.0mm Pitch; RoHS: O; PinCount: 196; DigiKeyPartNumber: DS92LV1260TUJB-ND; Code_JEDEC: MO-192-AAE-1; ComponentLink1Description: DS92LV1260 Datasheet; ComponentLink1URL: http://www.national.com/ds/DS/DS92LV1260.pdf; ComponentLink2Description: DS92LV1260 Web Page; ComponentLink2URL: http://www.national.com/pf/DS/DS92LV1260.html; ComponentLink3Description: UJB196A Package Page; ComponentLink3URL: http://www.national.com/packaging/folders/ujb196a.html
footprint UJB196A (BGA, 196-Leads, Body 15x15mm, Pitch 1mm)
part A pins: A2 REN (in), A3 RIN0- (in), A4 RIN0+ (in), A6 RIN2- (in), A7 RIN2+ (in), A9 RIN4- (in), A10 RIN4+ (in), A12 RIN6- (in), A13 RIN6+ (in), B1 NC, B4 REFCLK (in), B5 ~{PWRDN} (in), B10 NC, B13 SEL2 (in), C1 JTL2, C2 JTL1, C3 CHTST (out), C4 RCLK_R/~{F} (power), C5 RIN1- (in), C6 RIN1+ (in), C8 RIN3- (in), C9 RIN3+ (in), C10 RIN5- (in), C11 RIN5+ (in), C12 SEL0 (in), C13 SEL1 (in), C14 NC, D1 JTL3, D2 JTL4, D3 JTL5, D4 NC, D8 NC, D9 NC, D11 NC, D13 ~{LOCK5} (out), D14 NC, E2 ROUT09 (out), E3 NC, E4 ROUT08 (out), E11 NC, E12 ROUT57 (out), E13 ROUT58 (out), E14 ROUT59 (out), F2 RCLK0 (out), F3 ~{LOCK0} (out), F4 ROUT07 (out), F11 NC, F13 RCLK5 (out), G3 ROUT06 (out), G4 ROUT05 (out), G11 ROUT55 (out), G12 ROUT56 (out), H2 ROUT04 (out), H3 ROUT02 (out), H4 ROUT03 (out), H11 ROUT54 (out), H12 ROUT53 (out), J2 ROUT12 (out), J3 ROUT10 (out), J11 ROUT52 (out), J12 ROUT51 (out), K2 ROUT14 (out), K3 ROUT00 (out), K4 ROUT01 (out), K11 NC, K12 ROUT50 (out), K13 ROUT40 (out), L1 ROUT13 (out), L2 RCLK1 (out), L3 ROUT11 (out), L4 NC, L5 NC, L6 ROUT21 (out), L7 NC, L8 ROUT31 (out), L9 ROUT34 (out), L10 NC, L11 ROUT45 (out), L12 ROUT41 (out), L13 ROUT44 (out), L14 ROUT42 (out), M1 ROUT15 (out), M2 ROUT18 (out), M3 ROUT19 (out), M4 ROUT29 (out), M5 ROUT25 (out), M6 ROUT23 (out), M7 ROUT20 (out), M8 ROUT30 (out), M9 ROUT33 (out), M10 ROUT35 (out), M11 ROUT36 (out), M12 ROUT46 (out), M13 RCLK4 (out), M14 ROUT43 (out), N1 ROUT16 (out), N2 ROUT17 (out), N3 ~{LOCK2} (out), N4 ROUT27 (out), N5 RCLK2 (out), N6 ROUT22 (out), N9 ROUT32 (out), N10 RCLK3 (out), N11 ROUT37 (out), N12 ROUT39 (out), N13 ROUT47 (out), N14 ROUT48 (out), P1 ~{LOCK1} (out), P2 ROUT28 (out), P3 ROUT26 (out), P4 ROUT24 (out), P11 ROUT38 (out), P12 ~{LOCK3} (out), P13 ~{LOCK4} (out), P14 ROUT49 (out)
part B pins: A1 DGND (power), A5 AGND (power), A8 AGND (power), A11 AVDD (power), A14 PGND (power), B2 DGND (power), B3 DVDD (power), B6 AVDD (power), B7 AGND (power), B8 AGND (power), B9 AVDD (power), B11 AGND (power), B12 PGND (power), B14 DGND (power), C7 AVDD (power), D5 DGND (power), D6 DVDD (power), D7 DGND (power), D10 PGND (power), D12 PVDD (power), E1 PVDD (power), E5 DGND (power), E6 DVDD (power), E7 DVDD (power), E8 DGND (power), E9 DVDD (power), E10 DVDD (power), F1 PVDD (power), F5 DGND (power), F6 DGND (power), F7 DVDD (power), F8 DGND (power), F9 DGND (power), F10 DVDD (power), F12 AVDD (power), F14 PVDD (power), G1 PGND (power), G2 PGND (power), G5 DGND (power), G6 DVDD (power), G7 DGND (power), G8 DGND (power), G9 DGND (power), G10 DVDD (power), G13 PGND (power), G14 PVDD (power), H1 PGND (power), H5 DGND (power), H6 DVDD (power), H7 DGND (power), H8 DGND (power), H9 DGND (power), H10 DVDD (power), H13 PGND (power), H14 PGND (power), J1 PVDD (power), J4 PGND (power), J5 DVDD (power), J6 DGND (power), J7 DGND (power), J8 DVDD (power), J9 DVDD (power), J10 DVDD (power), J13 PGND (power), J14 PVDD (power), K1 PVDD (power), K5 DVDD (power), K6 DVDD (power), K7 DVDD (power), K8 DGND (power), K9 DGND (power), K10 DVDD (power), K14 PVDD (power), N7 PGND (power), N8 PGND (power), P5 PVDD (power), P6 PVDD (power), P7 PGND (power), P8 PGND (power), P9 PVDD (power), P10 PVDD (power)

## DS92LV8028TUF
designator U?
8 Channel 10:1 Serializer; PartNumber: DS92LV8028TUF; Manufacturer: National Semiconductor; CompType: Interface IC; PackageTopMarking: NSUZXYYTT*DS92LV8028T*UF*BBBBB; PowerWise: N; Published: 4-Dec-2008; DatasheetVersion: Aug-2003; PackageVersion: revC, Jul-2005; PackageReference: UJB196A; Publisher: Altium Limited; PackageDescription: LBGA, 15 x 15 x 1.37mm, 196 Ball, 1.0mm Pitch; RoHS: O; PinCount: 196; DigiKeyPartNumber: DS92LV8028TUF-ND; Code_JEDEC: MO-192-AAE-1; ComponentLink1Description: DS92LV8028 Datasheet; ComponentLink1URL: http://www.national.com/ds/DS/DS92LV8028.pdf; ComponentLink2Description: DS92LV8028 Web Page; ComponentLink2URL: http://www.national.com/pf/DS/DS92LV8028.html; ComponentLink3Description: UJB196A Package Page; ComponentLink3URL: http://www.national.com/packaging/folders/ujb196a.html
footprint UJB196A (BGA, 196-Leads, Body 15x15mm, Pitch 1mm)
part A pins: A8 DOUT3- (out), A9 DOUT2- (out), A10 DOUT1- (out), A11 DOUT0- (out), B8 DOUT3+ (out), B9 DOUT2+ (out), B10 DOUT1+ (out), B11 DOUT0+ (out), F11 DIN0<0> (in), F12 DIN0<2> (in), G11 DIN0<4> (in), G12 DIN0<3> (in), G14 DIN0<1> (in), H11 DIN0<5> (in), H12 DIN0<7> (in), H13 DIN0<9> (in), H14 DIN0<6> (in), J8 SYNC<0> (in), J11 DIN1<1> (in), J12 DIN0<8> (in), J13 DIN1<2> (in), J14 DIN1<0> (in), K8 SYNC<2> (in), K9 SYNC<3> (in), K11 DIN1<8> (in), K12 DIN1<3> (in), K13 DIN1<5> (in), K14 DIN1<4> (in), L7 DIN3<9> (in), L8 DIN3<7> (in), L9 DIN3<4> (in), L10 DIN3<1> (in), L11 DIN2<9> (in), L12 DIN1<6> (in), L13 DIN1<9> (in), L14 DIN1<7> (in), M7 DIN3<6> (in), M8 DIN3<5> (in), M9 DIN3<2> (in), M10 DIN2<7> (in), M11 DIN2<5> (in), M12 ~{PWDN<1>} (in), N8 DIN3<0> (in), N9 DIN2<6> (in), N10 DIN2<3> (in), N11 DIN2<1> (in), N12 SYNC<1> (in), N13 ~{PWDN<0>} (in), P7 DIN3<8> (in), P8 DIN3<3> (in), P9 DIN2<8> (in), P10 DIN2<4> (in), P11 DIN2<2> (in), P12 DIN2<0> (in), P13 ~{PWDN<3>} (in), P14 ~{PWDN<2>} (in)
part B pins: A4 DOUT7+ (out), A5 DOUT6+ (out), A6 DOUT5+ (out), A7 DOUT4- (out), B4 DOUT7- (out), B5 DOUT6- (out), B6 DOUT5- (out), B7 DOUT4+ (out), E3 DIN7<6> (in), E4 DIN7<4> (in), F1 DIN7<7> (in), F2 DIN7<9> (in), F3 DIN7<8> (in), F4 DIN7<1> (in), G1 DIN7<2> (in), G2 DIN7<5> (in), G3 DIN7<3> (in), G4 DIN6<7> (in), H1 DIN6<9> (in), H2 DIN6<8> (in), H3 DIN7<0> (in), H4 DIN6<6> (in), J1 DIN6<5> (in), J2 DIN6<3> (in), J3 DIN6<4> (in), J4 DIN6<2> (in), K1 DIN6<1> (in), K2 DIN6<0> (in), K3 DIN5<3> (in), K4 DIN4<7> (in), K5 SYNC<4> (in), K7 SYNC<6> (in), L1 SYNC<7> (in), L2 SYNC<5> (in), L3 DIN5<5> (in), L4 DIN4<9> (in), L5 DIN4<4> (in), L6 DIN4<0> (in), M1 ~{PWDN<7>} (in), M2 ~{PWDN<6>} (in), M3 DIN5<7> (in), M4 DIN5<1> (in), M5 DIN4<5> (in), M6 DIN4<2> (in), N1 ~{PWDN<5>} (in), N2 ~{PWDN<4>} (in), N3 DIN5<8> (in), N4 DIN5<4> (in), N5 DIN5<0> (in), N6 DIN4<6> (in), N7 DIN4<1> (in), P2 DIN5<9> (in), P3 DIN5<6> (in), P4 DIN5<2> (in), P5 DIN4<8> (in), P6 DIN4<3> (in)
part C pins: A13 BIST_SEL<1> (in), A14 TMS (in), B12 BIST_ACT (in), B13 BIST_SEL<0> (in), B14 TDI (in), C12 TRSTN (in), C13 TCK (in), C14 TDO (out), D11 BIST_SEL<3> (in), E11 BIST_SEL<2> (in), F14 TCLK (in), M14 DEN (in), N14 ~{MS_PWDN} (in)
part D pins: A1 DVDD (power), A2 DGND (power), A3 DGND (power), A12 DGND (power), B1 DVDD (power), B2 DGND (power), B3 DGND (power), C1 PGND (power), C2 DGND (power), C3 DVDD (power), C4 DGND (power), C5 DVDD (power), C6 AVDD (power), C7 AGND (power), C8 AVDD (power), C9 AGND (power), C10 AGND (power), C11 AVDD (power), D1 PGND (power), D2 PVDD (power), D3 PVDD (power), D4 DVDD (power), D5 AVDD (power), D6 AGND (power), D7 AGND (power), D8 AVDD (power), D9 AGND (power), D10 AVDD (power), D12 DGND (power), D13 DVDD (power), D14 DVDD (power), E1 DGND (power), E2 DGND (power), E5 AGND (power), E6 AVDD (power), E7 AGND (power), E8 AVDD (power), E9 DGND (power), E10 DGND (power), E12 DGND (power), E13 DGND (power), E14 DGND (power), F5 DVDD (power), F6 DGND (power), F7 AVDD (power), F8 DVDD (power), F9 DVDD (power), F10 DGND (power), F13 DVDD (power), G5 NC1, G6 DVDD (power), G7 AGND (power), G8 NC11, G9 NC12, G10 DVDD (power), G13 DVDD (power), H5 NC3, H6 NC2, H7 DVDD (power), H8 NC7, H9 NC10, H10 DGND (power), J5 NC4, J6 NC5, J7 NC6, J9 NC8, J10 NC9, K6 DGND (power), K10 DGND (power), M13 DGND (power), P1 DGND (power)

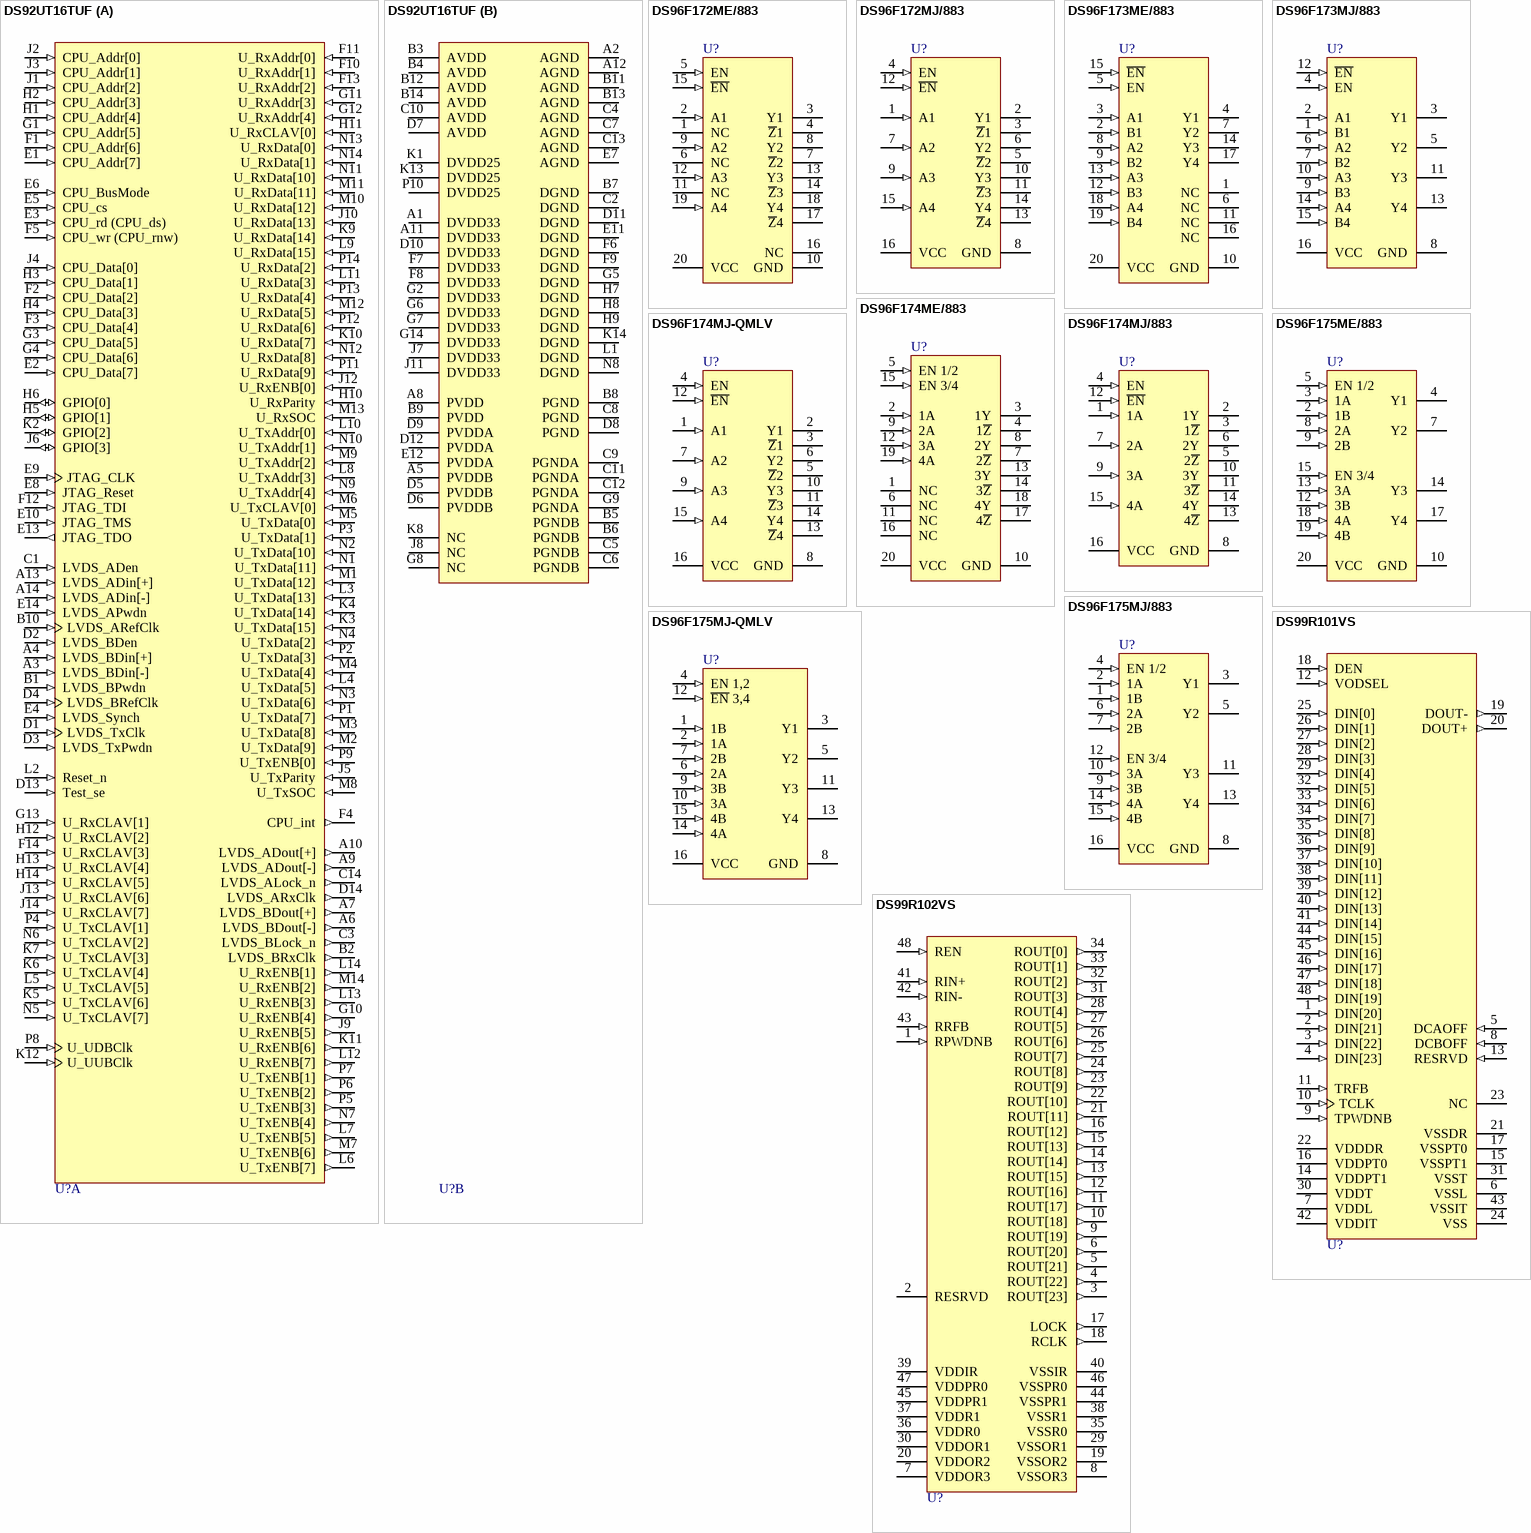
[diagram p26: symbols DS92UT16TUF to DS99R102VS]